# Altium schematic symbol library STM32F031G6U6.SchLib: 1 symbol
Pins are listed as number, name and electrical type; pins without a type are passive.

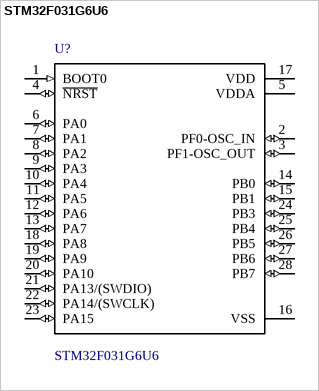
[diagram p0: symbol STM32F031G6U6]

## STM32F031G6U6
designator U?
ARMÂ® CortexÂ®-M0 STM32F0 Microcontroller IC 32-Bit 48MHz 32KB _32K x 8_ FLASH; MF: STMicroelectronics; Package: UFQFN-28 STMicroelectronics; Digi-Key_Part_Number: 497-13620-ND; MP: STM32F031G6U6; Digi-Key_Purchase_URL: https://www.digikey.ca/product-detail/en/stmicroelectronics/STM32F031G6U6/497-13620-ND/3947372?utm_source=snapeda&utm_medium=aggregator&utm_campaign=symbol; SnapEDA_Link: https://www.snapeda.com/parts/STM32F031G6U6/STMicroelectronics/view-part/885324/?ref=snap; Value: *
footprint *QFN50P400X400X60-28N
pins: 1 BOOT0 (in), 2 PF0-OSC_IN (io), 3 PF1-OSC_OUT (io), 4 ~{NRST} (io), 5 VDDA (power), 6 PA0 (io), 7 PA1 (io), 8 PA2 (io), 9 PA3 (io), 10 PA4 (io), 11 PA5 (io), 12 PA6 (io), 13 PA7 (io), 14 PB0 (io), 15 PB1 (io), 16 VSS (power), 17 VDD (power), 18 PA8 (io), 19 PA9 (io), 20 PA10 (io), 21 PA13/(SWDIO) (io), 22 PA14/(SWCLK) (io), 23 PA15 (io), 24 PB3 (io), 25 PB4 (io), 26 PB5 (io), 27 PB6 (io), 28 PB7 (io)